# EAGLE library part 693021020811 (library WR-CRD)
WR-CRD Micro SIM Card Connector Push & Push with Card Detection KIND PROPERTIES Gender Receptacle Type Push & Push General Information Operating Temperature -20 up to +70 °C Electrical Properties Working Voltage 50 V (AC) Withstanding Voltage 500 V (AC) Contact Resistance 100 mΩ Material Properties Insulator Material LCP Insulator Flammability Rating UL94 V-0 Insulator Color Black Contact Material Brass Contact Plating Gold over Nickel Shielding Material Steel Shielding Plating Tin <https://www.we-online.com/components/media/o732987v209%20693021020811_Multi-parts.jpg> Details see: www.we-online.com/en/components/products/MICRO_SIM_CARD_CONNECTOR_PUSH_PUSH_WIH_CARD_DETECTION Created by Ella Wu 2023-03-28 2023 (C) Würth Elektronik
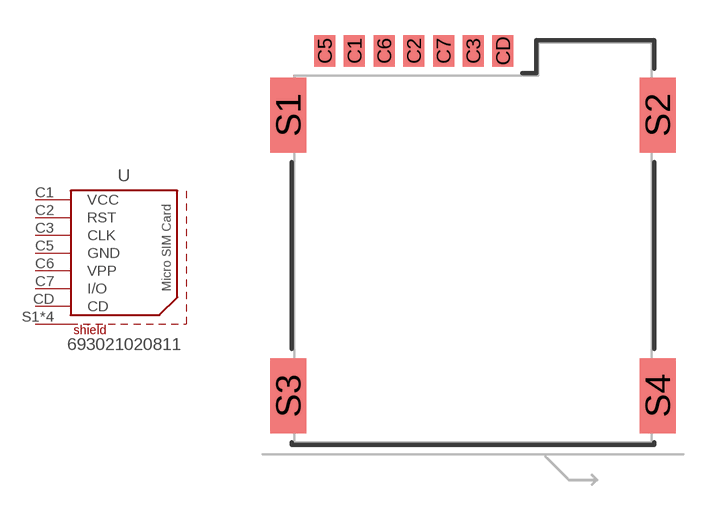
[diagram p2: symbol with the pads of 693021020811; footprint 693021020811]

Designator prefix -

## 693021020811 (DATASHEET-URL: https://www.we-online.com/redexpert/spec/693120035011?ae; GERDER: Receptacle; IR: 0.5A; MOUNT: SMT; PART-NUMBER: 693120035011; PINS: 7; TYPE: Push & Push; VALUE: 693021020811; WORKING-VOLTAGE: 50V(AC))  [693021020811]
C1  VCC
C2  RST
C3  CLK
C5  GND
C6  VPP
C7  I/O
CD  CD
S1  SHIELD
S2  SHIELD
S3  SHIELD
S4  SHIELD

## Footprint 693021020811 (pad centres in mm)
WR-CRD Micro SIM Card Connector Push & Push with Card Detection
smd 0.9 x 1.35: C1 -5.07,8.765; C2 -2.53,8.765; C3 0.01,8.765; C5 -6.34,8.765; C6 -3.8,8.765; C7 -1.26,8.765; CD 1.28,8.765
smd 1.55 x 3.2: S1 -7.9,6.01; S2 7.9,6.01; S3 -7.9,-6.01; S4 7.9,-6.01